# Altium footprint library TrailGuard1.0.PcbLib: 2 footprints
Each footprint in its own frame and in the unit in brackets; x right, y up, seen from the top. Pads: shape width x height; smd on the part's side, far side on the other; paste and mask are expansions set on the pad; w line width, h text height; cw(c..) or ccw(c..) is an arc to the next point about the centre after c.
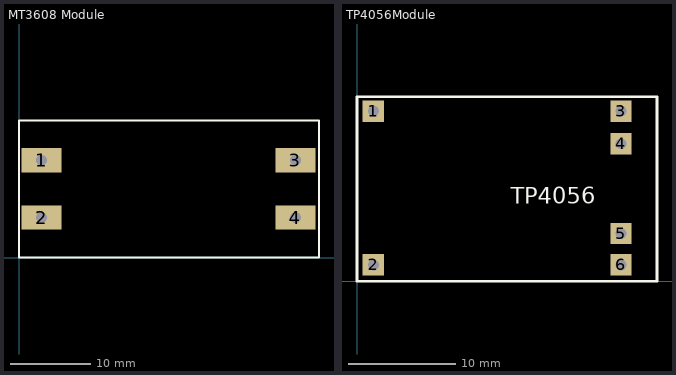
[diagram p0: the footprints below, top view; thin cyan lines are the x and y axes]

## MT3608 Module [mm]
pads (4):
  rect 5x3 hole 1.35: 1(2.794,12.065) 2(2.794,4.953) 3(34.29,12.065) 4(34.29,4.953)
Top Overlay:
  lines w0.254: 0,0 37.211,0 37.211,17 0,17 0,0
Mechanical 1:
  text "MT3608" at 14.224,7.493 h1.52
3D body "MT3608 Converter.STEP": height 6.45, standoff -0.85, extent -0.033,-0.316 37.117,17.109

## TP4056Module [mil]
pads (6):
  rect 78.74x78.74 hole 40: 1(60,625) 2(60,60) 3(970,625) 4(970,505) 5(970,175) 6(970,60)
Top Overlay:
  lines w10: 0,0 1102.36,0 1102.36,677.17 0,677.17 0,0
  text "TP4056" at 565,285 h60
3D body "TP4056_Charging_Module_Type_C.step": height 162.99, standoff 0, extent -46.46,-2.52 1107.09,682.52